# Altium schematic symbol library R1.SchLib: 224 symbols (part 1 of 2)
Pins are listed as number, name and electrical type; pins without a type are passive.

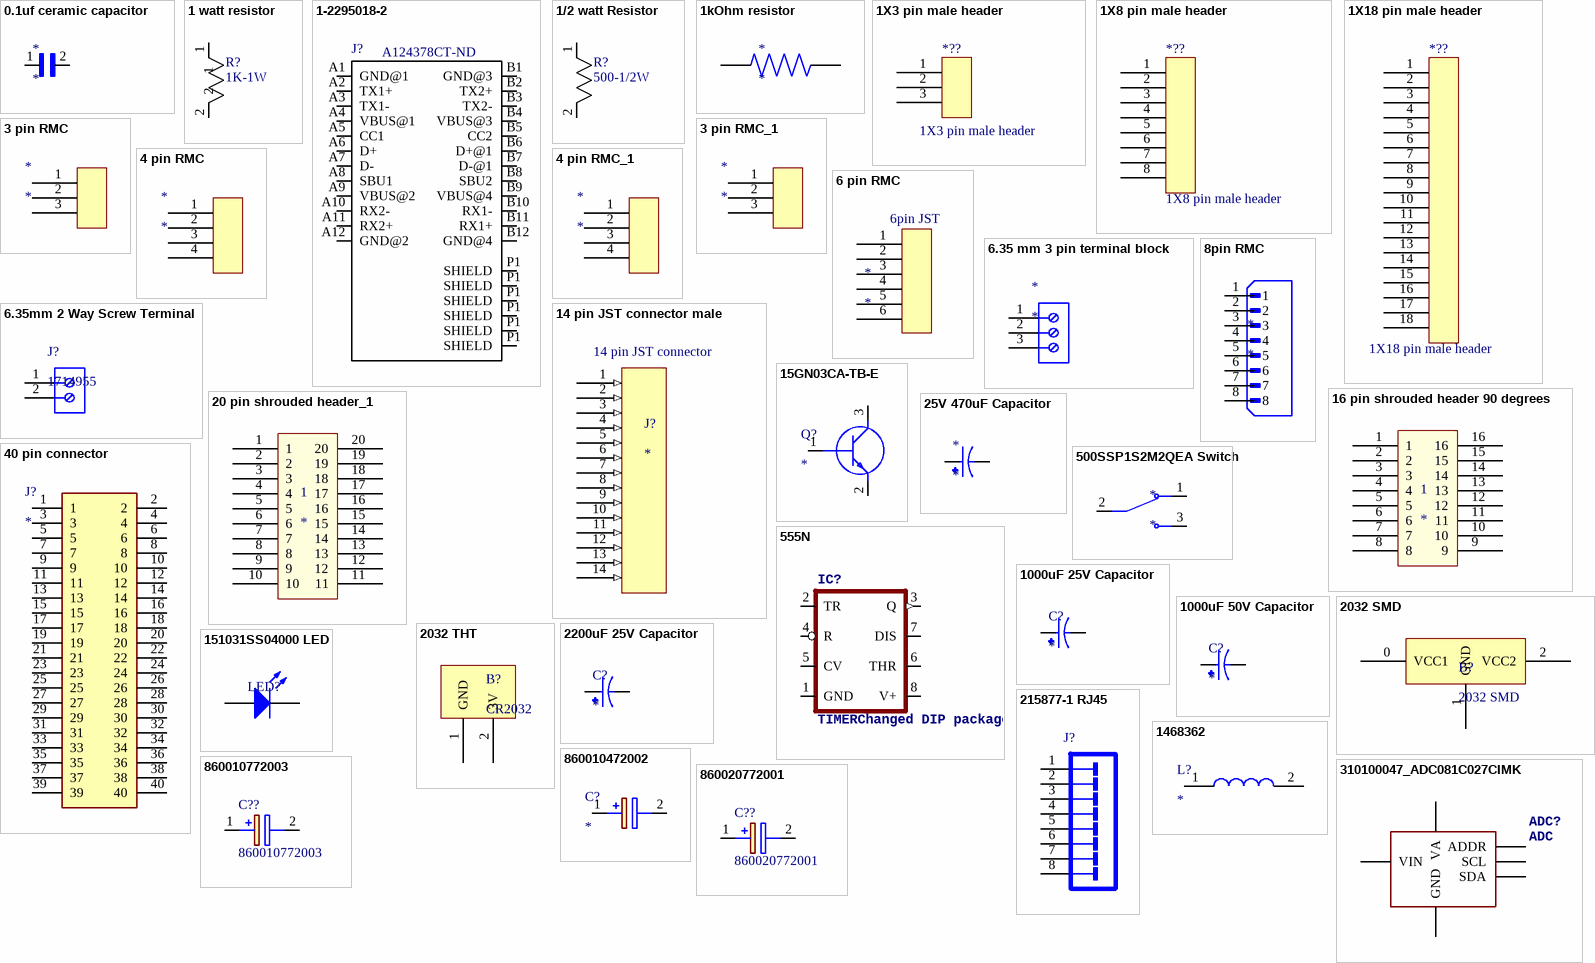
[diagram p0: symbols 0.1uf ceramic capacitor to 860020772001]

## 0.1uf ceramic capacitor
designator *
footprint 0.1uf ceramic capacitor
pins: 1, 2

## 1 watt resistor
designator R?, comment 1K-1W
footprint R_Axial_DIN0411_L9.9mm_D3.6mm_P15.24mm_Horizontal
pins: 1, 2

## 1-2295018-2
designator J?, comment Supplier Part Number 1: A124378CT-ND  (hidden comment: 1-2295018-2 USB C Connector)
Conn USB Type C RCP 12 POS Solder RA SMD 12 Terminal 1 Port T/R; MF: TE Connectivity; Availability: Unavailable; SnapEDA_Link: https://www.snapeda.com/parts/1-2295018-2/TE%20Connectivity%20AMP%20Connectors/view-part/?ref=snap; Price: None; TE_purchase_URL: https://www.te.com/usa-en/product-1-2295018-2.html?te_bu=Cor&te_type=disp&te_campaign=seda_glo_cor-seda-global-disp-prtnr-fy19-seda-model-bom-cta_sma-317_1&elqCampaignId=32493; Package: None; MP: 1-2295018-2; Value: *; Supplier 1: Digi-Key
footprint TE_1-2295018-2_1-2295018-2(Primary)
pins: A1 GND@1, A2 TX1+, A3 TX1-, A4 VBUS@1, A5 CC1, A6 D+, A7 D-, A8 SBU1, A9 VBUS@2, A10 RX2-, A11 RX2+, A12 GND@2, B1 GND@3, B2 TX2+, B3 TX2-, B4 VBUS@3, B5 CC2, B6 D+@1, B7 D-@1, B8 SBU2, B9 VBUS@4, B10 RX1-, B11 RX1+, B12 GND@4, P1 SHIELD, P1 SHIELD, P1 SHIELD, P1 SHIELD, P1 SHIELD, P1 SHIELD

## 1/2 watt Resistor
designator R?, comment 500-1/2W
footprint R_Axial_DIN0309_L9.0mm_D3.2mm_P12.70mm_Horizontal
pins: 1, 2

## 1kOhm resistor
designator *
footprint 1kOhm Resistor
pins: 1, 2

## 1X3 pin male header
designator *??
footprint PinHeader_1x03_P2.54mm_Vertical
pins: 1, 2, 3

## 1X8 pin male header
designator *??
footprint PinHeader_1x08_P2.54mm_Vertical
pins: 1, 2, 3, 4, 5, 6, 7, 8

## 1X18 pin male header
designator *??
footprint PinHeader_1x18_P2.54mm_Vertical
pins: 1, 2, 3, 4, 5, 6, 7, 8, 9, 10, 11, 12, 13, 14, 15, 16, 17, 18

## 3 pin RMC
designator *
footprint Header JST 1X03
pins: 1, 2, 3

## 3 pin RMC_1
designator *
footprint Header JST 1X03
pins: 1, 2, 3

## 4 pin RMC
designator *
footprint Header JST 1X04
pins: 1, 2, 3, 4

## 4 pin RMC_1
designator *
footprint Header JST 1X04
pins: 1, 2, 3, 4

## 6 pin RMC
designator *
footprint 6 pin RMC (JST header)
pins: 1, 2, 3, 4, 5, 6
text: 6pin JST

## 6.35 mm 3 pin terminal block
designator *
footprint 6.35mm 3 Way Screw Terminal
pins: 1, 2, 3

## 6.35mm 2 Way Screw Terminal
designator J?, comment 1714955
PC Terminal Block, Pitch 6.35 mm, 1 x 2 Position, Height 21.5 mm, Tail Lenght 5.1 mm, RoHS, Bulk; Manufacturer: Phoenix Contact; Package Description: PC Terminal Block, Pitch 6.35 mm, 1 x 2 Position, Height 21.5 mm, Tail Lenght 5.1 mm; Datasheet URL: http://media.digikey.com/pdf/Data%20Sheets/Phoenix%20Contact%20PDFs/1714955.pdf; Package Reference: 1714955; Manufacturer URL: http://www.phoenixcontact.com/; Datasheet Version: 02/2010; Mounting Technology: ThroughHole
footprint 6.35mm 2 Way Screw Terminal (Terminal Block, 2-Leads, Body 12.7x12.5mm, Pitch 6.35mm)
pins: 1, 2

## 8pin RMC
designator *
footprint 8pin RMC
pins: 1, 2, 3, 4, 5, 6, 7, 8

## 14 pin JST connector male
designator J?
footprint 14 pin JST connector (Pitch 2.54mm)
pins: 1 (in), 2 (in), 3 (in), 4 (in), 5 (in), 6 (in), 7 (in), 8 (in), 9 (in), 10 (in), 11 (in), 12 (in), 13 (in), 14 (in)
text: 14 pin JST connector

## 15GN03CA-TB-E
designator Q?
Transistor BJT NPN; Manufacturer_Name: onsemi; Manufacturer_Part_Number: 15GN03CA-TB-E; Datasheet Link: https://www.mouser.com/datasheet/2/308/ENA1106-D-117745.pdf; Height: 1.35mm; Mouser Part Number: 863-15GN03CA-TB-E; Mouser Price/Stock: https://www.mouser.co.uk/ProductDetail/ON-Semiconductor/15GN03CA-TB-E?qs=5C9Q4QJFsuPrDQA2X5K6OA%3D%3D
footprint SOT95P250X135-3N
pins: 1 B, 2 E, 3 C

## 16 pin shrouded header 90 degrees
designator 1
footprint 16 pin shrouded box 90 degrees
pins: 1, 2, 3, 4, 5, 6, 7, 8, 9, 10, 11, 12, 13, 14, 15, 16

## 20 pin shrouded header_1
designator 1
footprint 20 Pin Box Header .1"Sp Straight
pins: 1, 2, 3, 4, 5, 6, 7, 8, 9, 10, 11, 12, 13, 14, 15, 16, 17, 18, 19, 20

## 25V 470uF Capacitor
designator *
footprint 25V 470uF Capacitor
pins: N, P

## 40 pin connector
designator J?
Connector; Manufacturer_Name: Adafruit; Manufacturer_Part_Number: 4079; Datasheet Link: https://cdn-shop.adafruit.com/product-files/4079/P4079_datasheet_F201-SGP-D055-40.pdf; Height: 8.65mm; Mouser Part Number: 485-4079; Mouser Price/Stock: https://www.mouser.co.uk/ProductDetail/Adafruit/4079?qs=vLWxofP3U2w4WK9643znRA%3D%3D; Arrow Part Number: 4079; Arrow Price/Stock: https://www.arrow.com/en/products/4079/adafruit-industries?region=nac
footprint RHDR40W60P254X254_2X20_5130X500X865P
pins: 1, 2, 3, 4, 5, 6, 7, 8, 9, 10, 11, 12, 13, 14, 15, 16, 17, 18, 19, 20, 21, 22, 23, 24, 25, 26, 27, 28, 29, 30, 31, 32, 33, 34, 35, 36, 37, 38, 39, 40

## 500SSP1S2M2QEA Switch
designator *
pins: 1 NC, 2 COM, 3 NO

## 555N
designator IC?, comment TIMERChanged DIP package to have round (not oval) pin pads    http://www.ladyada.net/library/pcb/eaglelibrary.html
footprint DIL08-ROUND
pins: 1 GND (power), 2 TR, 3 Q (out), 4 R, 5 CV, 6 THR, 7 DIS, 8 V+ (power)

## 1000uF 25V Capacitor
designator C?
CAP ALUM 1000UF 20% 25V RADIAL; MP: EEUTA1E102LB; MF: Panasonic; Package: RADIAL-2 Panasonic; Availability: No availability data; Price: None; Check_prices: https://www.snapeda.com/parts/EEUTA1E102LB/Panasonic/view-part/5789306/?ref=eda; SnapEDA_Link: https://www.snapeda.com/parts/EEUTA1E102LB/Panasonic/view-part/5789306/?ref=snap; Value: *
footprint 1000uF 25V Capacitor
pins: N, P

## 1000uF 50V Capacitor
designator C?
CAP ALUM 1000UF 20% 50V RADIAL; MF: Panasonic; MP: EEU-HD1H102B; Availability: In Stock; Check_prices: https://www.snapeda.com/parts/EEU-HD1H102B/Panasonic/view-part/2335470/?ref=eda; Package: RADIAL-2 Panasonic; Price: None; SnapEDA_Link: https://www.snapeda.com/parts/EEU-HD1H102B/Panasonic/view-part/2335470/?ref=snap; Value: *
footprint 1000uF 50V Capacitor
pins: N, P

## 2032 SMD
designator B?
footprint 2032 SMD
pins: 0 VCC1, 1 GND, 2 VCC2

## 2032 THT
designator B?, comment CR2032
footprint CR2032THT
pins: 1 GND, 2 3V

## 2200uF 25V Capacitor
designator C?
Aluminum Electrolytic Capacitors, TA-A Series, 2200uF +/- 20%, 25V, Radial lead type(16x31.5mm); MF: Panasonic; MP: EEUTA1E222; Package: RADIAL-2 Panasonic; Purchase-URL: https://pricing.snapeda.com/search/part/EEUTA1E222/?ref=eda; Value: *; Availability: In Stock; SnapEDA_Link: https://www.snapeda.com/parts/EEUTA1E222/Panasonic/view-part/5784153/?ref=snap; Price: None; Check_prices: https://www.snapeda.com/parts/EEUTA1E222/Panasonic/view-part/5784153/?ref=eda
footprint CAP 2200uF 25V
pins: N, P

## 151031SS04000 LED
designator LED?
THT LED round mono-color color lens, WL-TMRW, Super Red; PartNumber: 151031SS04000; PackageReference: Type 3mm; Emitting color: Super Red; ComponentLink1Description: Manufacturer URL; ComponentLink1URL: http://www.we-online.com; ComponentLink2Description: Datasheet; ComponentLink2URL: http://katalog.we-online.de/pbs/datasheet/7448042001.pdfhttp://katalog.we-online.de/pbs/datasheet/7448042001.pdfhttp://katalog.we-online.de/pbs/datasheet/7448042001.pdfhttp://katalog.we-online.de/pbs/datasheet/151031SS04000.pdf
footprint LED Type 3mm (THT, LED-3mm, 2pin- Body 4.15mm(max))
pins: 1 K, 2 A

## 215877-1 RJ45
designator J?
Female Header, Pitch 2.54 mm, 2 x 4 Position, Height 11.5 mm, Tail Length 3 mm, -40 to 105 degC, RoHS, Tape and Reel; Dynamic Catalog: Modular Jacks; Other Names: A105009CT; Number of Ports: 1; Connector Type: Jack; LED Color: Does Not Contain LED; Ratings: Cat3; Number of Positions/Contacts: 8p8c (RJ45, Ethernet); 3D Model: 215877-1.pdf; Tab Direction: Down; Shielding: Unshielded; DatasheetVersion: Rev. AE; PackageReference: THD; Supplier 1: Digi-Key; Supplier Part Number 1: A105009TR-ND; Supplier 2: Digi-Key; Supplier Part Number 2: A105009CT-ND; Features: Board Lock; Packaging: Cut Tape (CT); Termination: Solder; Family: Modular Connectors - Jacks; Contact Finish: Gold; Housing Material: Polybutylene Terephthalate (PBT); RoHS Information: 215877-1 Statement of Compliance; Mounting Type: Through Hole; Contact Material: Phosphor Bronze; Orientation: 90° Angle (Right); Standard Package: 1; Number of Rows: 1; Category: Connectors, Interconnects; ComponentLink1Description: Manufacturer URL; ComponentLink1URL: http://www.te.com; ComponentLink2Description: Datasheet; ComponentLink2URL: https://datasheet.ciiva.com/16310/215877-1-16310656.pdf
footprint TECO-215877-1_V_RJ45 (TH, 8-Leads, Body 18.1x15.2mm RJ45)
pins: 1, 2, 3, 4, 5, 6, 7, 8

## 1468362
designator L?
Inductor; Manufacturer_Name: Murata Electronics; Manufacturer_Part_Number: 1468362; Datasheet Link: https://www.mouser.com/datasheet/2/281/kmp_1400-38440.pdf; Height: 15mm; Mouser Part Number: 580-1468362; Mouser Price/Stock: https://www.mouser.com/Search/Refine.aspx?Keyword=580-1468362
footprint 1468362
pins: 1, 2

## 310100047_ADC081C027CIMK
designator ADC?, comment ADC
footprint SOT236
pins: 1 VA (power), 2 GND (power), 3 VIN, 4 ADDR, 5 SCL, 6 SDA

## 860010472002
designator C?
Capacitor Polarised; Manufacturer_Name: Wurth Elektronik; Manufacturer_Part_Number: 860010472002; Datasheet Link: https://www.we-online.com/catalog/datasheet/860010472002.pdf; Height: 12.5mm; Mouser Part Number: 710-860010472002; Mouser Price/Stock: https://www.mouser.co.uk/ProductDetail/Wurth-Elektronik/860010472002?qs=0KOYDY2FL2%2FyXlauDHcLjg%3D%3D
footprint CAPPRD200W52D500H1250
pins: 1 +, 2 -

## 860010772003
designator C??
Capacitor Polarised; Manufacturer_Name: Wurth Elektronik; Datasheet Link: https://componentsearchengine.com/Datasheets/2/860010772003.pdf; Height: 12.5mm; Manufacturer_Part_Number: 860010772003; Mouser Part Number: 710-860010772003; Mouser Price/Stock: https://www.mouser.co.uk/ProductDetail/Wurth-Elektronik/860010772003?qs=0KOYDY2FL29PTpt3pWRF6g%3D%3D
footprint CAPPRD200W52D500H1250
pins: 1 +, 2 -

## 860020772001
designator C??
Capacitor Polarised; Manufacturer_Name: Wurth Elektronik; Datasheet Link: http://katalog.we-online.de/pbs/datasheet/860020772001.pdf; Height: 12mm; Manufacturer_Part_Number: 860020772001; Mouser Part Number: 710-860020772001; Mouser Price/Stock: https://www.mouser.co.uk/ProductDetail/Wurth-Elektronik/860020772001?qs=0KOYDY2FL2%2F1%2FcLhynxZVQ%3D%3D
footprint CAPPRD200W52D500H1200
pins: 1 +, 2 -

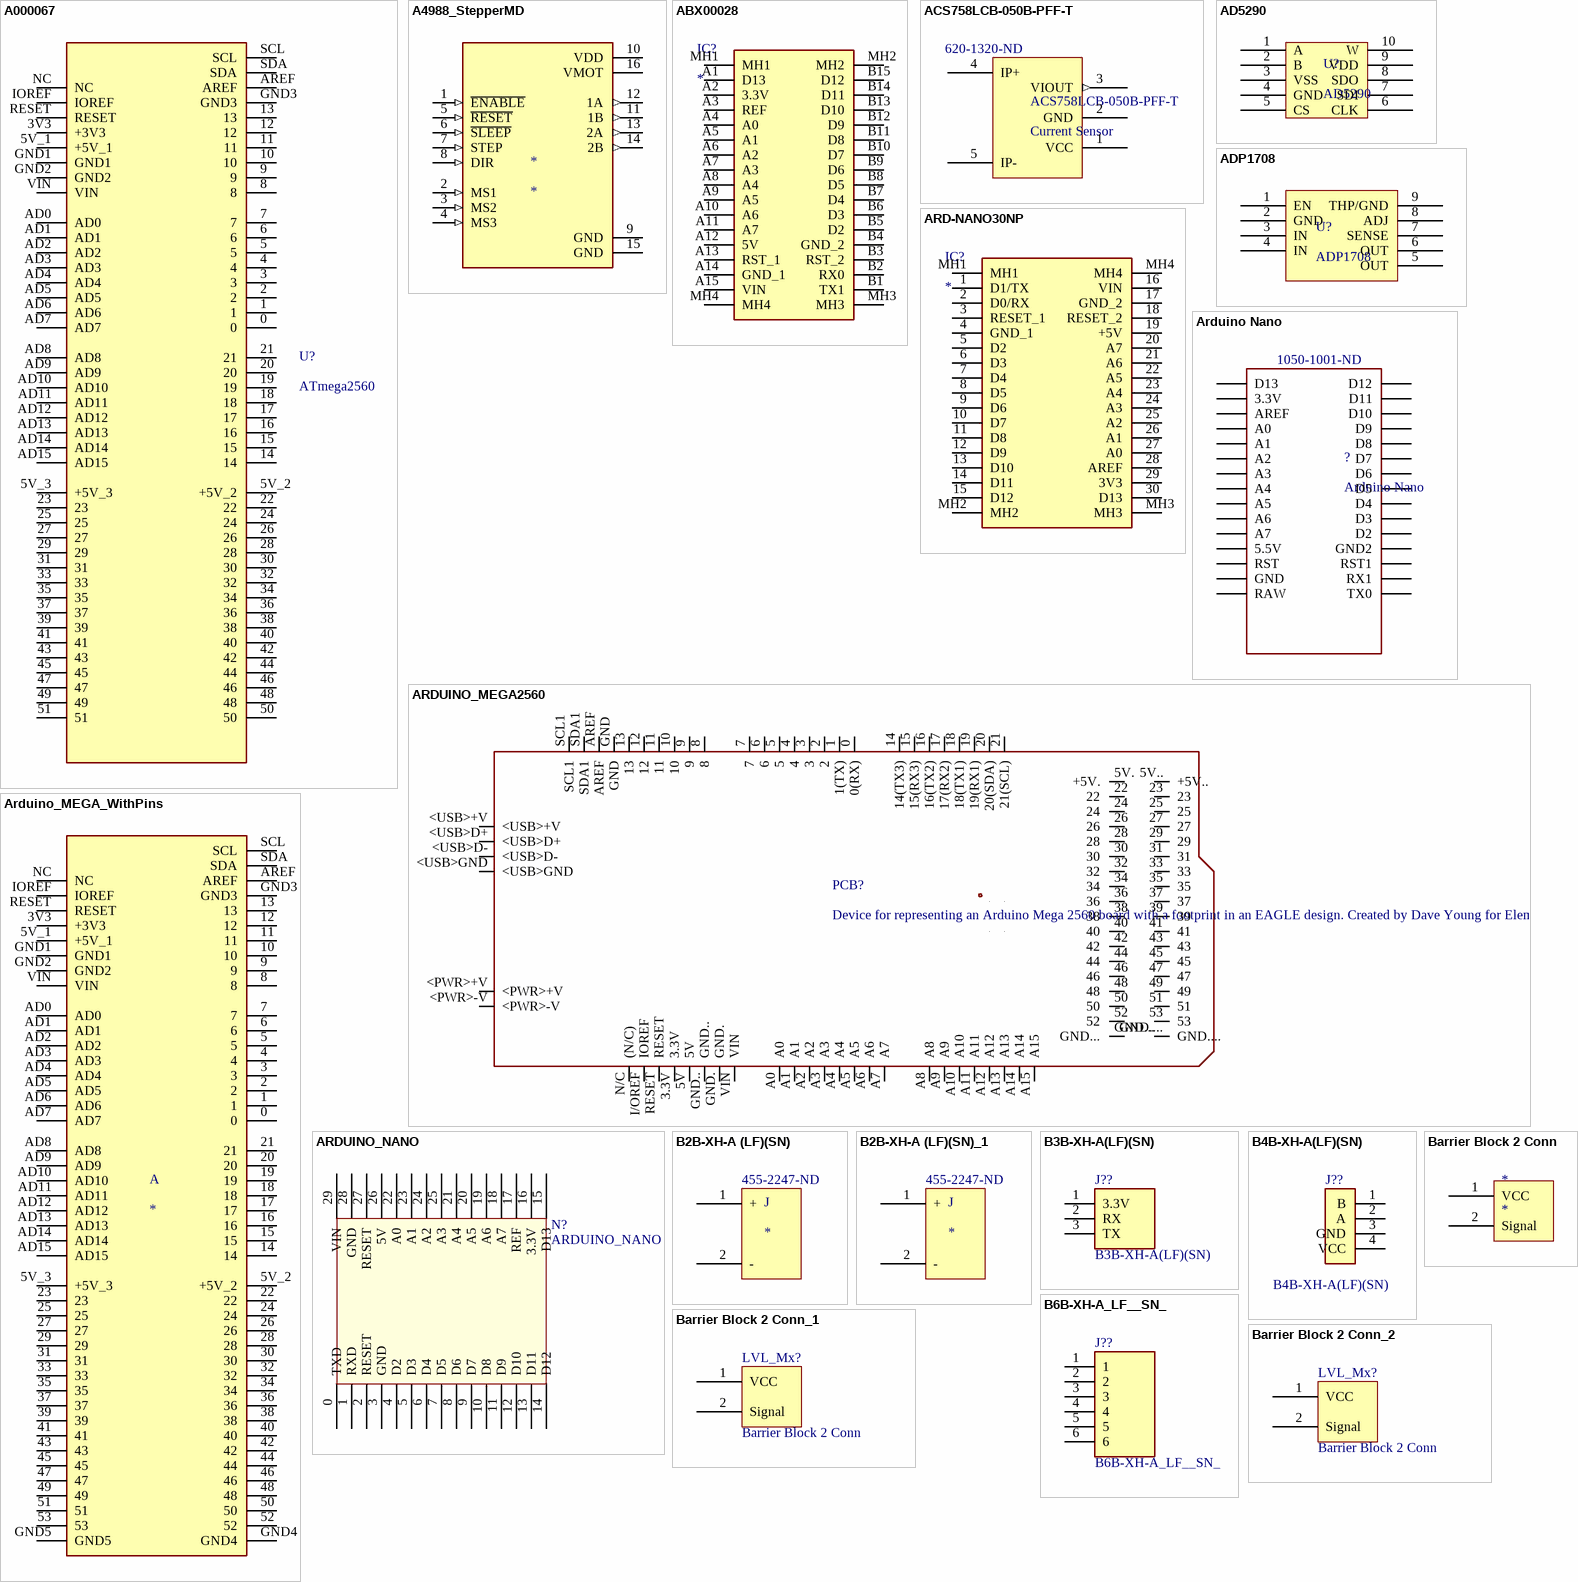
[diagram p1: symbols A000067 to Barrier Block 2 Conn_2]

## A000067
designator U?, comment ATmega2560
ATmega2560 Microcontroller Mega Development Board 16MHz CPU 8KB RAM 4KB/256KB EEPROM/Flash; Manufacturer: Arduino; Manufacturer Part Number: A000067; Number of Bits: 8; Core Architecture: AVR; Evaluation Kit: Yes; Interface: USB,UART; Density: 256KB; Max Input Voltage: 12V; Min Input Voltage: 7V; Supplier 1: RSComponents; RoHS: No; Category: Embedded Processors and Controllers; Stock 1: 7329; Pricing 1: 1=39.87400, 10=36.28200, 50=34.68700 (USD); Weight: 0.11lb; Packaging: Bulk; Package Quantity: 1; Series: AVR® ATmega; Length: 7inch; Width: 4inch; Height: 0.25inch; REACH SVHC: Unknown; RoHS Compliant: Yes; ComponentLink1URL: https://datasheet.ciiva.com/17118/0900766b80e8ba22-17118566.pdf?src-supplier=Allied+Electronics; ComponentLink1Description: https://datasheet.ciiva.com/17118/0900766b80e8ba22-17118566.pdf?src-supplier=Allied+Electronics; ComponentLink2URL: https://datasheet.ciiva.com/14100/mega2560-eng-tds-14100429.pdf?src-supplier=Distrelec; ComponentLink2Description: https://datasheet.ciiva.com/14100/mega2560-eng-tds-14100429.pdf?src-supplier=Distrelec; ComponentLink3URL: https://datasheet.ciiva.com/19455/2152366-19455442.pdf?src-supplier=Jameco; ComponentLink3Description: https://datasheet.ciiva.com/19455/2152366-19455442.pdf?src-supplier=Jameco; ComponentLink4URL: https://datasheet.ciiva.com/6810/1674878-6810805.pdf?src-supplier=Newark; ComponentLink4Description: https://datasheet.ciiva.com/6810/1674878-6810805.pdf?src-supplier=Newark; ComponentLink5URL: https://datasheet.ciiva.com/20168/73-4450-20168545.pdf?src-supplier=Rapid+Electronics; ComponentLink5Description: https://datasheet.ciiva.com/20168/73-4450-20168545.pdf?src-supplier=Rapid+Electronics; ComponentLink6URL: https://datasheet.ciiva.com/29142/191790-sp-01-en-arduino-mega-2560-board-29142322.pdf?src-supplier=Conrad; ComponentLink6Description: https://datasheet.ciiva.com/29142/191790-sp-01-en-arduino-mega-2560-board-29142322.pdf?src-supplier=Conrad; ComponentLink7URL: https://datasheet.ciiva.com/2398/atmel-2549-8-bit-avr-microcontroller-atmega640-1280-1281-2560-2561-datasheet-2398238.pdf?src-supplier=Digi-Key; ComponentLink7Description: https://datasheet.ciiva.com/2398/atmel-2549-8-bit-avr-microcontroller-atmega640-1280-1281-2560-2561-datasheet-2398238.pdf?src-supplier=Digi-Key; Supplier Part Number 1: 7154084
footprint arduino mega
pins: 0, 1, 2, 3, 3V3 +3V3, 4, 5, 5V_1 +5V_1, 5V_2 +5V_2, 5V_3 +5V_3, 6, 7, 8, 9, 10, 11, 12, 13, 14, 15, 16, 17, 18, 19, 20, 21, 22, 23, 24, 25, 26, 27, 28, 29, 30, 31, 32, 33, 34, 35, 36, 37, 38, 39, 40, 41, 42, 43, 44, 45, 46, 47, 48, 49, 50, 51, AD0, AD1, AD2, AD3, AD4, AD5, AD6, AD7, AD8, AD9, AD10, AD11, AD12, AD13, AD14, AD15, AREF, GND1, GND2, GND3, IOREF, NC, RESET, SCL, SDA, VIN

## A4988_StepperMD
designator *
footprint A4988_StepperMD
pins: 1 ~{ENABLE} (in), 2 MS1 (in), 3 MS2 (in), 4 MS3 (in), 5 ~{RESET} (in), 6 ~{SLEEP} (in), 7 STEP (in), 8 DIR (in), 9 GND (power), 10 VDD (power), 11 1B (out), 12 1A (out), 13 2A (out), 14 2B (out), 15 GND (power), 16 VMOT (power)

## ABX00028
designator IC?
Integrated Circuit; Manufacturer_Name: Arduino; Manufacturer_Part_Number: ABX00028; Datasheet Link: https://store.arduino.cc/arduino-nano-every; Height: 10mm; Mouser Part Number: 782-ABX00028; Mouser Price/Stock: https://www.mouser.co.uk/ProductDetail/Arduino/ABX00028?qs=PzGy0jfpSMtit6rnFl8mVg%3D%3D; Arrow Part Number: ABX00028; Arrow Price/Stock: https://www.arrow.com/en/products/abx00028/arduino-corporation?region=nac
footprint ABX00028
pins: A1 D13, A2 3.3V, A3 REF, A4 A0, A5 A1, A6 A2, A7 A3, A8 A4, A9 A5, A10 A6, A11 A7, A12 5V, A13 RST_1, A14 GND_1, A15 VIN, B1 TX1, B2 RX0, B3 RST_2, B4 GND_2, B5 D2, B6 D3, B7 D4, B8 D5, B9 D6, B10 D7, B11 D8, B12 D9, B13 D10, B14 D11, B15 D12, MH1, MH2, MH3, MH4

## ACS758LCB-050B-PFF-T
designator ACS758LCB-050B-PFF-T, comment Current Sensor  Supplier Part Number 1: 620-1320-ND
Thermally Enhanced, Fully Integrated, Hall Effect-Based  Linear Current Sensor IC with 100 µΩ Current Conductor; Manufacturer: Allegro MicroSystems, LLC; Manufacturer Part Number: ACS758LCB-050B-PFF-T; For Measuring: AC/DC; Sensor Type: Hall Effect, Open Loop; Current - Sensing: 50A; Number of Channels: 1; Output: Ratiometric, Voltage; Sensitivity: 40mV/A; Frequency: DC ~ 120kHz; Linearity: ±1%; Accuracy: ±2%; Voltage - Supply: 3 V ~ 5.5 V; Response Time: 4µs; Current - Supply (Max): 13.5mA; Polarization: Bidirectional; Supplier 1: Digi-Key; RoHS: RoHS Compliant; Category: Sensors, Transducers; Stock 1: 7507; Pricing 1: 1=7.98, 5=7, 10=6.3, 25=5.6, 50=5.18, 100=4.48, 500=4.2, 1000=3.92, 5000=3.724 (USD); Packaging: Tube; Operating Temperature: -40°C ~ 150°C; Mounting Type: Through Hole; Package / Case: 5-CB Formed Leads, PFF; ComponentLink1URL: http://www.allegromicro.com/en/Products/Part_Numbers/0758/0758.pdf; ComponentLink1Description: http://www.allegromicro.com/en/Products/Part_Numbers/0758/0758.pdf
footprint ACS758LCB-050B-PFF-T
pins: 1 VCC (power), 2 GND (power), 3 VIOUT (out), 4 IP+ (power), 5 IP- (power)

## AD5290
designator U?
Digital Potentiometer
footprint MSOP10 (MSOP 10 pitch 0.5mm)
pins: 1 A, 2 B, 3 VSS, 4 GND, 5 CS, 6 CLK, 7 SDI, 8 SDO, 9 VDD, 10 W

## ADP1708
designator U?
1 A, Low Dropout,  CMOS Linear Regulator
footprint SOIC 8 - THPAD (8-Pin Small Outline Integrated Circuit 1.27 mm Pitch, IPC Medium Density)
pins: 1 EN, 2 GND, 3 IN, 4 IN, 5 OUT, 6 OUT, 7 SENSE, 8 ADJ, 9 THP/GND

## ARD-NANO30NP
designator IC?
Integrated Circuit; Manufacturer_Name: Gravitech; Manufacturer_Part_Number: ARD-NANO30NP; Datasheet Link: http://www.mouser.com/datasheet/2/595/Arduino_Nano3_0-220057.pdf; Height: 5mm; Mouser Part Number: 992-ARD-NANO30NP; Mouser Price/Stock: https://www.mouser.co.uk/ProductDetail/Gravitech/ARD-NANO30NP?qs=Vxac6xGyzPlh7in3DWNTbQ%3D%3D
footprint ARDNANO30NP
pins: 1 D1/TX, 2 D0/RX, 3 RESET_1, 4 GND_1, 5 D2, 6 D3, 7 D4, 8 D5, 9 D6, 10 D7, 11 D8, 12 D9, 13 D10, 14 D11, 15 D12, 16 VIN, 17 GND_2, 18 RESET_2, 19 +5V, 20 A7, 21 A6, 22 A5, 23 A4, 24 A3, 25 A2, 26 A1, 27 A0, 28 AREF, 29 3V3, 30 D13, MH1, MH2, MH3, MH4

## Arduino Nano
designator ?  Supplier Part Number 1: 1050-1001-ND
Manufacturer Part Number: A000005; Board Type: Evaluation Platform; Core Processor: AVR; For Use With/Related Products: ATmega328; Contents: Board(s); Supplier 1: Digi-Key; Manufacturer: Arduino; RoHS: RoHS Compliant; Category: Programmers, Development Systems; Stock 1: 0; Pricing 1: 1=0 (USD); Type: MCU 8-Bit; Operating System: -; Platform: Arduino Nano; Mounting Type: Fixed; ComponentLink1URL: http://media.digikey.com/pdf/Data%20Sheets/Arduino%20PDFs/A000005.pdf; ComponentLink1Description: http://media.digikey.com/pdf/Data%20Sheets/Arduino%20PDFs/A000005.pdf
footprint Arduino Nano (Arduino Nano, ATMEGA328)
pins: 3.3V, 5V 5.5V, A0, A1, A2, A3, A4, A5, A6, A7, AREF, D2, D3, D4, D5, D6, D7, D8, D9, D10, D11, D12, D13, GND, GND1 GND2, RAW, RST, RST1, RX1, TX0

## ARDUINO_MEGA2560
designator PCB?, comment Device for representing an Arduino Mega 2560 board with a footprint in an EAGLE design. Created by Dave Young for Element14. More EAGLE documentation at: http://www.element14.com/community/community/knode/cadsoft_eagle
footprint ARDUINO_MEGA2560
pins: 0 0(RX), 1 1(TX), 2, 3, 3.3V, 4, 5, 5V, 5V. +5V., 5V.. +5V.., 6, 7, 8, 9, 10, 11, 12, 13, 14 14(TX3), 15 15(RX3), 16 16(TX2), 17 17(RX2), 18 18(TX1), 19 19(RX1), 20 20(SDA), 21 21(SCL), 22, 23, 24, 25, 26, 27, 28, 29, 30, 31, 32, 33, 34, 35, 36, 37, 38, 39, 40, 41, 42, 43, 44, 45, 46, 47, 48, 49, 50, 51, 52, 53, +5V_, <PWR>+V, <PWR>-V, <USB>+V, <USB>D+, <USB>D-, <USB>GND, A0, A1, A2, A3, A4, A5, A6, A7, A8, A9, A10, A11, A12, A13, A14, A15, AREF, GND, GND., GND.., GND..., GND...., GND__, I/OREF IOREF, MISO, MOSI, N/C (N/C), RESET, RESET., SCK, SCL1, SDA1, VIN

## Arduino_MEGA_WithPins
designator A
ATmega2560 Arduino Mega2560 AVRÂ® ATmega AVR MCU 8-Bit Embedded Evaluation Board; MP: A000067; Availability: Unavailable; Package: None; SnapEDA_Link: https://www.snapeda.com/parts/A000067/Arduino/view-part/557398/?ref=snap; Price: None; Value: *; MF: Arduino
footprint ARDUINO_MEGA_WithPins
pins: 0, 1, 2, 3, 3V3 +3V3, 4, 5, 5V_1 +5V_1, 5V_2 +5V_2, 5V_3 +5V_3, 6, 7, 8, 9, 10, 11, 12, 13, 14, 15, 16, 17, 18, 19, 20, 21, 22, 23, 24, 25, 26, 27, 28, 29, 30, 31, 32, 33, 34, 35, 36, 37, 38, 39, 40, 41, 42, 43, 44, 45, 46, 47, 48, 49, 50, 51, 52, 53, AD0, AD1, AD2, AD3, AD4, AD5, AD6, AD7, AD8, AD9, AD10, AD11, AD12, AD13, AD14, AD15, AREF, GND1, GND2, GND3, GND4, GND5, IOREF, NC, RESET, SCL, SDA, VIN

## ARDUINO_NANO
designator N?
ATSAMD21G18A Arduino Nano 33 IoT SAM D ARMÂ® CortexÂ®-M0+ MCU 32-Bit Embedded Evaluation Board; MP: ARDUINO NANO; Package: None; Price: None; Availability: Unavailable; Value: *; MF: Arduino; SnapEDA_Link: https://www.snapeda.com/parts/ARDUINO%20NANO/Arduino/view-part/1128261/?ref=snap
footprint SHIELD_ARDUINO_NANO
pins: 0 TXD, 1 RXD, 2 RESET, 3 GND, 4 D2, 5 D3, 6 D4, 7 D5, 8 D6, 9 D7, 10 D8, 11 D9, 12 D10, 13 D11, 14 D12, 15 D13, 16 3.3V, 17 REF, 18 A7, 19 A6, 20 A5, 21 A4, 22 A0, 23 A1, 24 A2, 25 A3, 26 5V, 27 RESET, 28 GND, 29 VIN

## B2B-XH-A (LF)(SN)
designator J  Supplier Part Number 1: 455-2247-ND
Supplier 1: Digi-Key
footprint JST 2 PIN (BATTERY IN)
pins: 1 +, 2 -

## B2B-XH-A (LF)(SN)_1
designator J  Supplier Part Number 1: 455-2247-ND
Supplier 1: Digi-Key
footprint JST 2 PIN (BATTERY IN)
pins: 1 +, 2 -

## B3B-XH-A(LF)(SN)
designator J??
Connector Header Through Hole 3 position 0.098 (2.50mm); MF: JST Sales; Check_prices: https://www.snapeda.com/parts/B3B-XH-A(LF)(SN)/JST%20Sales%20America%20Inc./view-part/231271/?ref=eda; Value: *; Package: None; Price: None; Availability: In Stock; MP: B3B-XH-A(LF)(SN); SnapEDA_Link: https://www.snapeda.com/parts/B3B-XH-A(LF)(SN)/JST%20Sales%20America%20Inc./view-part/231271/?ref=snap
footprint JST_B3B-XH-A(LF)(SN)
pins: 1 3.3V, 2 RX, 3 TX

## B4B-XH-A(LF)(SN)
designator J??
Connector Header Through Hole 4 position 0.098 (2.50mm); MF: JST Sales; Check_prices: https://www.snapeda.com/parts/B4B-XH-A(LF)(SN)/JST%20Sales%20America%20Inc./view-part/447494/?ref=eda; Purchase-URL: https://pricing.snapeda.com/search/part/B4B-XH-A(LF)(SN)/?ref=eda; SnapEDA_Link: https://www.snapeda.com/parts/B4B-XH-A(LF)(SN)/JST%20Sales%20America%20Inc./view-part/447494/?ref=snap; Price: None; Value: *; MP: B4B-XH-A(LF)(SN); Package: None; Availability: Warning
footprint JST_B4B-XH-A(LF)(SN)
pins: 1 B, 2 A, 3 GND, 4 VCC

## B6B-XH-A_LF__SN_
designator J??
Connector; Manufacturer_Name: JST (JAPAN SOLDERLESS TERMINALS); Manufacturer_Part_Number: B6B-XH-A(LF)(SN); Datasheet Link: https://datasheet.lcsc.com/szlcsc/JST-Sales-America-B6B-XH-A-LF-SN_C144397.pdf; Height: 7mm; Arrow Part Number: B6B-XH-A(LF)(SN); Arrow Price/Stock: https://www.arrow.com/en/products/b6b-xh-a-lf-sn/jst-manufacturing
footprint SHDR6W64P0X250_1X6_1740X575X700P
pins: 1, 2, 3, 4, 5, 6

## Barrier Block 2 Conn
designator *
footprint 2 Barrier Block - duplicate (A98472-ND)
pins: 1 VCC, 2 Signal

## Barrier Block 2 Conn_1
designator LVL_Mx?, comment Barrier Block 2 Conn
footprint 2 Barrier Block - duplicate (A98472-ND)
footprint 2 Barrier Block 5mm
pins: 1 VCC, 2 Signal

## Barrier Block 2 Conn_2
designator LVL_Mx?, comment Barrier Block 2 Conn
footprint 2 Barrier Block - duplicate (A98472-ND)
footprint 2 Barrier Block 5mm
pins: 1 VCC, 2 Signal

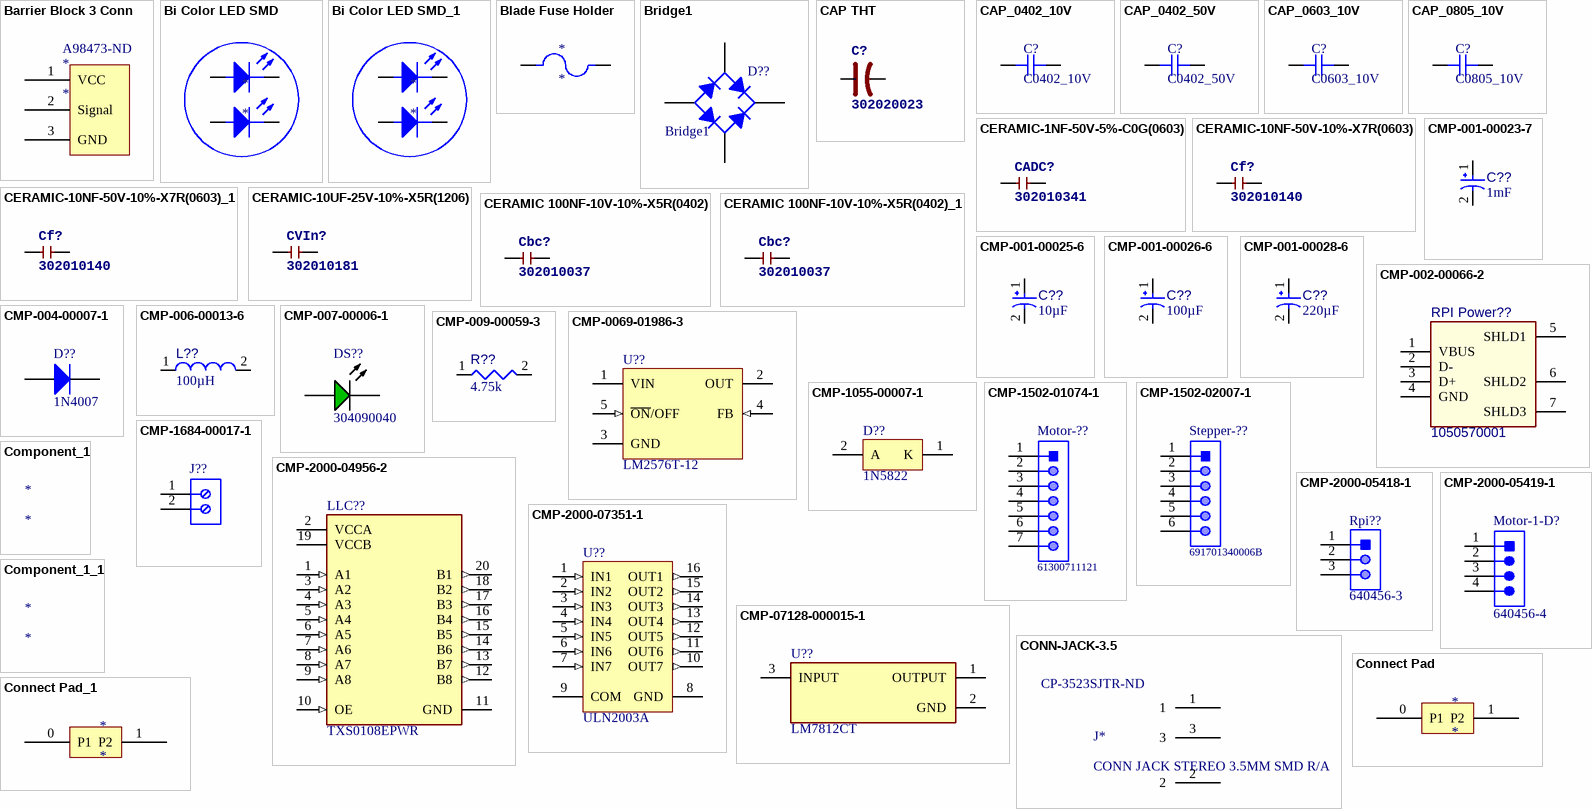
[diagram p2: symbols Barrier Block 3 Conn to Connect Pad_1]

## Barrier Block 3 Conn
designator *  Supplier Part Number 1: A98473-ND
Supplier 1: Digi-Key
footprint 3 Barrier Block (A98473-ND)
pins: 1 VCC, 2 Signal, 3 GND

## Bi Color LED SMD
designator *
footprint BI COLOR LED
pins: 1 A, 2 K, 3 A, 4 K

## Bi Color LED SMD_1
designator *
footprint BI COLOR LED
pins: 1 A, 2 K, 3 A, 4 K

## Blade Fuse Holder
designator *
footprint Blade fuse holder
pins: 1_1 1, 1_2 1, 2_1 2, 2_2 2

## Bridge1
designator D??
Full Wave Diode Bridge; Published: 8-Jun-2000; LatestRevisionDate: 29-May-2009; LatestRevisionNote: Sch pins A & K swapped.; DatasheetVersion: E2732B; PackageReference: D-38; Publisher: Altium Limited; PackageDescription: Bridge Rectifier; 4 Terminals; Body 9.4 x 9.4 mm (typ); Pitch 5.08 mm
footprint D-38 (Bridge Rectifier; 4 Terminals; Body 9.4 x 9.4 mm (typ); Pitch 5.08 mm)
simulation model BRIDGE (Spice Subcircuit)
pins: 1 K, 2 C, 3 A, 4 C

## CAP THT
designator C?, comment 302020023
footprint CAP TH
pins: 1 +, 2 -

## CAP_0402_10V
designator C?, comment C0402_10V
Capacitor SMD 0402 10V
footprint CAP_0402
pins: 1, 2

## CAP_0402_50V
designator C?, comment C0402_50V
Capacitor SMD 0402 50V
footprint CAP_0402
pins: 1, 2

## CAP_0603_10V
designator C?, comment C0603_10V
Capacitor SMD 0603 10V
footprint CAP_0603
pins: 1, 2

## CAP_0805_10V
designator C?, comment C0805_10V
Capacitor SMD 0805 10V
footprint CAP_0805
pins: 1, 2

## CERAMIC-1NF-50V-5%-C0G(0603)
designator CADC?, comment 302010341
MPN: GRM1885C1H102JA01D
footprint C0603
pins: 1, 2

## CERAMIC-10NF-50V-10%-X7R(0603)
designator Cf?, comment 302010140
MPN: CC0603KRX7R9BB103
footprint C0603
pins: 1, 2

## CERAMIC-10NF-50V-10%-X7R(0603)_1
designator Cf?, comment 302010140
MPN: CC0603KRX7R9BB103
footprint C0603
pins: 1, 2

## CERAMIC-10UF-25V-10%-X5R(1206)
designator CVIn?, comment 302010181
MPN: CC1206KKX5R8BB106
footprint C1206
pins: 1, 2

## CERAMIC 100NF-10V-10%-X5R(0402)
designator Cbc?, comment 302010037
MPN: CC0402KRX5R6BB104
footprint C0402
pins: 1, 2

## CERAMIC 100NF-10V-10%-X5R(0402)_1
designator Cbc?, comment 302010037
MPN: CC0402KRX5R6BB104
footprint C0402
pins: 1, 2

## CMP-001-00023-7
designator C??, comment value 1mF  (hidden comment: ECA1EM102)
Aluminum Electrolytic Capacitor, 1000 uF, +/- 20%, 25 V, -40 to 85 degC, 2-Pin THD, RoHS, Bulk; Manufacturer: Panasonic; Manufacturer Part Number: ECA-1EM102; Voltage Rating: 25V; Ripple Current: 850mA; Mounting Technology: TH; Datasheet URL: https://industrial.panasonic.com/cdbs/www-data/pdf/RDF0000/ABA0000C1218.pdf; Package Reference: CAPPR65-500-2000X1000X2200; RoHS Compliant: True; Package Description: 2-Pin Radial Lead, Dia 10 mm, Height 22 mm; Case/Package: Radial; Lead Pitch: 5mm; Min Operating Temperature: -40°C; Datasheet Version: Rev. 05, 10/2016; Manufacturer URL: http://www.panasonic.com/; Max Operating Temperature: 85°C; Tolerance: 20%; Capacitor Type: Electrolytic; Diameter: 10mm; Packaging: Bulk; Package Quantity: 200; Component Type: Capacitors
footprint CAPPR65-500-2000X1000X2200 (THD, 2-Leads, Dia 10mm, Pin Spacing 5mm)
pins: 1, 2

## CMP-001-00025-6
designator C??, comment value 10µF  (hidden comment: ECA1HM100)
Aluminum Electrolytic Capacitor, 10 uF, +/- 20%, 50 V, -40 to 85 degC, 2-Pin THD, RoHS, Bulk; Manufacturer: Panasonic; Manufacturer Part Number: ECA-1HM100; Voltage Rating: 50V; Ripple Current (AC): 65mA; Capacitor Type: Electrolytic; Case/Package: Radial; Datasheet URL: https://industrial.panasonic.com/cdbs/www-data/pdf/RDF0000/ABA0000C1218.pdf; Package Description: 2-Pin Radial Lead, Dia 5 mm, Height 12 mm; Mounting Technology: TH; Tolerance: 20%; Packaging: Bulk; Datasheet Version: Rev. 05, 10/2016; Min Operating Temperature: -40°C; Lead Pitch: 2mm; Pins: 2; Diameter: 5mm; Ripple Current: 65mA; Package Reference: CAPPR55-200-1100X500X1200; Manufacturer URL: http://www.panasonic.com/; RoHS Compliant: True; Package Quantity: 200; Max Operating Temperature: 85°C; Component Type: Capacitors
footprint CAPPR55-200-1100X500X1200 (THD, 2-Leads, Dia 5mm, Pin Spacing 2mm)
pins: 1, 2

## CMP-001-00026-6
designator C??, comment value 100µF  (hidden comment: ECA1HM101)
Aluminum Electrolytic Capacitor, 100 uF, +/- 20%, 50 V, -40 to 85 degC, 2-Pin THD, RoHS, Bulk; Manufacturer: Panasonic; Manufacturer Part Number: ECA-1HM101; Ripple Current (AC): 250mA; Voltage Rating: 50V; Package Description: 2-Pin Radial Lead, Dia 8 mm, Height 12.5 mm; Datasheet URL: https://industrial.panasonic.com/cdbs/www-data/pdf/RDF0000/ABA0000C1218.pdf; Lead Pitch: 3.5mm; Datasheet Version: Rev. 05, 10/2016; RoHS Compliant: True; Ripple Current: 250mA; Max Operating Temperature: 85°C; Packaging: Bulk; Manufacturer URL: http://www.panasonic.com/; Min Operating Temperature: -40°C; Package Reference: CAPPR65-350-1150X800X1250; Package Quantity: 200; Diameter: 8mm; Capacitor Type: Electrolytic; Tolerance: 20%; Pins: 2; Case/Package: Radial; Mounting Technology: TH; Component Type: Capacitors
footprint CAPPR65-350-1150X800X1250 (THD, 2-Leads, Dia 8mm, Pin Spacing 3.5mm)
pins: 1, 2

## CMP-001-00028-6
designator C??, comment value 220µF  (hidden comment: ECA-1HM221)
Aluminum Electrolytic Capacitor, 220 uF, +/- 20%, 50 V, -40 to 85 degC, 2-Pin THD, RoHS, Bulk; Manufacturer: Panasonic; Voltage Rating: 50V; Ripple Current: 400mA; Package Quantity: 200; Package Description: 2-Pin Radial Lead, Dia 10 mm, Body Length 12.5 mm; RoHS Compliant: True; Case/Package: Radial; Pins: 2; Mounting Technology: TH; Min Operating Temperature: -40°C; Packaging: Bulk; Ripple Current (AC): 400mA; Manufacturer URL: http://www.panasonic.com/; Diameter: 10mm; Tolerance: 20%; Package Reference: CAPPR65-500-1250X1000X1350; Max Operating Temperature: 85°C; Datasheet URL: http://industrial.panasonic.com/cdbs/www-data/pdf/RDF0000/DMF0000COL68.pdf; Lead Pitch: 5mm; Datasheet Version: Mar-16; Capacitor Type: Electrolytic; Manufacturer Part Number: ECA-1HM221; Component Type: Capacitors
footprint CAPPR65-500-1250X1000X1350 (THD, 2-Leads, Dia 10mm, Body Length 12.5mm)
pins: 1, 2

## CMP-002-00066-2
designator RPI Power??, comment 1050570001
USB-A Connector, 30 V, 1.5 A, -40 to 85 degC, RoHS, Tape and Reel; Manufacturer: Molex; Gender: RCP; Pins: 7; RoHS Compliant: Yes; Manufacturer Part Number: 1050570001; Component Type: Connectors
footprint MOLX-1050570001_V (THD, 4-Leads, Body 14.63x7.25mm)
pins: 1 VBUS, 2 D-, 3 D+, 4 GND, 5 SHLD1, 6 SHLD2, 7 SHLD3

## CMP-004-00007-1
designator D??, comment 1N4007
General Purpose Rectifier, 1.1 V, 1.0 A, -55 to 175 degC, 2-Pin DO-41, RoHS, Tape and Reel; Manufacturer: Fairchild; Manufacturer: Diodes; Manufacturer Part Number: 1N4007-T; Package Version: Rev. 2, 09/2008; Elements: 1; Forward Current: 1A; Max Surge Current: 30A; Forward Voltage: 1.1V; Peak Reverse Current: 5uA; Min Operating Temperature: -55°C; Case/Package: DO-41-2; Max Operating Temperature: 175°C; Package Description: 2-Pin Axial Lead, Dia 2.375 mm, Body Length 4.63 mm; RoHS Compliant: True; Datasheet Version: Rev. 1.1.0, 11/2014; Pins: 2; Package URL: http://www.fairchildsemi.com/dwg/DO/DO41A.pdf; Manufacturer URL: https://www.fairchildsemi.com/; Packaging: TapeandReel; Mounting Technology: TH; Package Quantity: 5000; Package Reference: DO-41-2; Datasheet URL: https://www.fairchildsemi.com/datasheets/1N/1N4007.pdf; Component Type: Diodes
footprint FAIR-DO-41-2 (THD, 2-Leads, Body 5.2x2.72mm, Pin Spacing 7.8mm)
pins: 1 K, 2 A

## CMP-006-00013-6
designator L??, comment value 100µH  (hidden comment: RL622-101K-RC)
Radial Inductor, 100 uH, +/- 10%, 0.91 A, -55 to 105 degC, 2-Pin THD, RoHS, Bulk; Manufacturer: Bourns; Q Factor: 20; Shielding: Unshielded; Core Material: Ferrite; Self Resonant Frequency: 3.7MHz; Resistance: 0.28Ohm; Current Rating: 910mA; Datasheet URL: http://www.bourns.com/docs/Product-Datasheets/rl622_series.pdf; Pins: 2; Inductance Tolerance: 10%; Packaging: Bulk; Tolerance: 10%; Diameter: 8.5mm; RoHS Compliant: True; Max Operating Temperature: 105°C; Package Quantity: 100; Package Reference: INDR62-500-1100X850X1100; Mounting Technology: TH; Lead Pitch: 5mm; Datasheet Version: Aug-10; Min Operating Temperature: -55°C; Package Description: 2-Pin Radial Lead, Dia 8.5 mm, Pitch 5 mm; Case/Package: Radial; Manufacturer Part Number: RL622-101K-RC; Component Type: Inductors
footprint INDR62-500-1100X850X1100 (THD, 2-Leads, Dia 8.5mm, Pitch 5mm)
pins: 1, 2

## CMP-007-00006-1
designator DS??, comment 304090040
Green LED, 80 mW, 20 mA, -25 to 85 degC, 2-Pin THD; Manufacturer: Shenzhen CGX; Mounting Technology: TH; Case/Package: 304090040; Package Description: 2-Pin Through Hole Device, Dia 3 mm, Pitch 2.28 mm; RoHS Compliant: Unknown; Package Reference: 304090040; Datasheet Version: Rev. 1.0, 09/2014; Manufacturer URL: http://szcgx.com/; Datasheet URL: http://datasheet.octopart.com/304090040-Chengguangxing-datasheet-62330655.pdf; Component Type: LED
footprint LED-2P-2.28-3MM (LED, 2-Leads, Dia 3mm, Pitch 2.28mm)
pins: 1 A, 2 K

## CMP-009-00059-3
designator R??, comment value 4.75k  (hidden comment: MFR-25FBF52-4K75)
Axial Resistor, 4.75 KOhm, +/- 1%, 0.25 W, -55 to 155 degC, 2-Pin THD, RoHS, Bulk; Manufacturer: Yageo; Voltage Rating: 250V; Power: 250mW; Min Operating Temperature: -55°C; Package Quantity: 200; Datasheet Version: Apr-13; Mounting Technology: TH; Package Description: 2-Pin Axial Lead, Dia 2.4 mm, Body Length 6.3 mm; Max Operating Temperature: 155°C; Composition: MetalFilm; RoHS Compliant: True; Package Reference: MFR-25; Tolerance: 1%; Case/Package: Axial; Datasheet URL: http://www.yageo.com/documents/recent/Yageo%20LR_MFR_2013.pdf; Manufacturer URL: http://www.yageo.com/; Packaging: Bulk; Manufacturer Part Number: MFR-25FBF52-4K75; Component Type: Resistors
footprint RESA60-630X240 (Axial Resistor, 2-Leads, Dia 2.4mm, Body Length 6.3mm)
pins: 1, 2
1 alternate drawing of the same symbol

## CMP-0069-01986-3
designator U??, comment LM2576T-12
SIMPLE SWITCHER® 3A Step-Down Voltage Regulator, 5-pin TO-220; Manufacturer: Texas Instruments; Manufacturer: TI National Semiconductor; PackageTopMarking: NSUZXYTTE#*LM2576T*-12 P+; PowerWise: N; PackageReference: KC0005A; RoHS: N; ComponentLink1URL: http://www.ti.com/general/docs/lit/getliterature.tsp?genericPartNumber=LM2576&fileType=pdf; PackageDescription: TO-220, Molded, 5 Lead, Straight; ComponentLink1Description: Datasheet URL; Code_JEDEC: TO-220-AB; CompType: Switcher; PinCount: 5; Manufacturer Part Number: LM2576T-12
footprint KC0005A (FM, 5-Leads, Body 10.16x8.46mm, Pitch 1.7mm)
pins: 1 VIN (power), 2 OUT (power), 3 GND (power), 4 FB (in), 5 ~{ON}/OFF (in)

## CMP-1055-00007-1
designator D??, comment 1N5822
Rectifier, 2-Pin Axial_Lead, Bulk Bag; Manufacturer: On Semiconductor; Manufacturer: ON Semiconductor / Fairchild; IFSM Max (A): 80; Note1: 0; Configuration: Single; PartNumber: 1N5822; ComponentLink2Description: Datasheet; RoHS: FALSE; PackageDescription: 2-Pin, Axial Lead, Diameter 5.05 mm; Mounting Technology: Through Hole; PackageReference: AXIAL_LEAD-2-267-05; ComponentLink1URL: http://www.onsemi.com/; PackageVersion: Rev. G, 06/2000; ComponentLink2URL: http://www.onsemi.cn/pub_link/Collateral/1N5820-D.PDF; ComponentLink3Description: Package Specification; ComponentLink1Description: Manufacturer URL; ComponentLink3URL: http://www.onsemi.com/pub_link/Collateral/267-05.PDF; Packing: Bulk Bag; DatasheetVersion: Rev. 10; Manufacturer Part Number: 1N5822
footprint FAIR-DO-41-2 (THD, 2-Leads, Body 5.2x2.72mm, Pin Spacing 7.8mm)
pins: 1 K, 2 A

## CMP-1502-01074-1
designator Motor-??, comment 61300711121
THT Vertical Pin Header WR-PHD, Pitch 2.54 mm, Single Row, 7 pins; Manufacturer: Wurth Elektronik; Manufacturer: Wurth Electronics; Pin Number: 7; Gender: Male; Working Voltage: 250VAC; Contact Resistance: 20mOhm; Rated Current: 3A; Pitch: 2.54mm; Withstanding Voltage: 500VAC; Row Number: Single; Packaging: Bag; Orientation: Vertical; Manufacturer URL: http://www.we-online.de; Datasheet URL: https://katalog.we-online.de/em/datasheet/6130xx11121.pdf; Part Number: 61300711121; Publisher: WurthElektronik; Operating Temperature: -40to105degC; Mounting Technology: THT; Package Reference: 61300711121; Manufacturer Part Number: 61300711121
footprint 61300711121 (Pin Header, pitch 2.54 mm, THT, Vertical, single row, 7p)
pins: 1, 2, 3, 4, 5, 6, 7

## CMP-1502-02007-1
designator Stepper-??, comment 691701340006B
Serie 7013 B - 3.81mm Horizontal PCB Header THR Type WR-TBL, 6 pin; Manufacturer: Wurth Elektronik; Manufacturer: Wurth Electronics; Pin Number: 6; Gender: Male; Mounting Technology: SMT; Pitch: 3.81mm; Manufacturer URL: http://www.we-online.de; Operating Temperature: -40to105degC; Part Number: 691701340006B; Packaging: TapeandReel; Publisher: WurthElektronik; Datasheet URL: http://katalog.we-online.de/em/datasheet/6917013400xxB.pdf; Package Reference: 691701340006B; Manufacturer Part Number: 691701340006B
footprint 691701340006B (Horizontal PCB Header THR Type, pitch 3.81mm, 06p)
pins: 1, 2, 3, 4, 5, 6

## CMP-1684-00017-1
designator J??
Female Header, Pitch 5 mm, 1 x 2 Position, Height 10 mm, Tail Length 3.5 mm, Rohs, Bulk; Manufacturer: TE Connectivity; Manufacturer Part Number: 282836-2; Wire Gauge: 16-30AWG; Product Training Modules: Wire-to-BoardEurostyleTerminalBlocks; Clamp Material - Plating: Brass-NickelPlated; Voltage: 300V; Mating Orientation: HorizontalwithBoard; Current: 13.5A; Pitch: 0.197"(5.00mm); Screw Thread: M3; 3D Model: 282836-2.pdf; Other Names: 5ULV-02B / A98076; Dynamic Catalog: BuchananSeries; Number of Levels: 1; Torque - Screw: 0.68Nm(6Lb-In); Featured Product: EurostyleTerminalBlockConnectors; Positions Per Level: 2; Wire Termination: Screw-RisingCageClamp; Datasheet URL: http://www.te.com.cn/commerce/DocumentDelivery/DDEController?Action=showdoc&DocId=Catalog+Section%7F1308389_EUROSTYLE_TERMINAL_BLOCKS%7F0607%7Fpdf%7FEnglish%7FENG_CS_1308389_EUROSTYLE_TERMINAL_BLOCKS_0607.pdf%7F282836-2; Color: Green; Family: TerminalBlocks-WiretoBoard; RoHS Information: 282836-2StatementofCompliance; Standard Package: 300; Contact Material - Plating: Brass-TinPlated; Manufacturer URL: http://www.te.com; Housing Material: Polyamide(PA66),Nylon6/6; Features: Interlocking(Side); Package Description: Female Header, Pitch 5 mm, 1 x 2 Position, Height 10 mm, Tail Length 3.5 mm; Mounting Type: ThroughHole; Package Reference: THD; Packaging: Bulk; Series: Buchanan; Category: Connectors,Interconnects; Screw Material - Plating: Brass-NickelPlated
footprint TECO-282836-2_V (Female Header, Pitch 5mm, 1 x 2 Position, Height 10mm)
pins: 1, 2

## CMP-2000-04956-2
designator LLC??, comment TXS0108EPWR
IC TRNSLTR BIDIRECTIONAL 20TSSOP; Manufacturer: Texas Instruments; Number of Inputs: 8; Supply Current: 8uA; Low Level Output Current: 50mA; Min Supply Voltage: 1.2V; Quiescent Current: 3uA; Output Type: Voltage; Propagation Delay: 4.8ns; Max Supply Voltage: 5.5V; Output Current: 620uA; Turn-On Delay Time: 312ns; Logic Function: Translator; Data Rate: 60Mbps; Rise Time: 6.3ns; High Level Output Current: -50mA; Number of Pins: 20; Packaging: Tape and Reel; Max Operating Temperature: 85°C; Height: 1.15mm; Nominal Supply Current: 8uA; Termination: SMD/SMT; Lead Free: Lead Free; Package Quantity: 1; Number of Bits: 8; Weight: 0.002716oz; Contact Plating: Gold; Series: -; Width: 4.4mm; Radiation Hardening: No; Mount: Surface Mount; Length: 6.5mm; Case/Package: TSSOP; REACH SVHC: No SVHC; RoHS Compliant: Yes; Min Operating Temperature: -40°C; Number of Channels: 8; Manufacturer Part Number: TXS0108EPWR
footprint FP-PW0020A-IPC_C
pins: 1 A1 (in), 2 VCCA (power), 3 A2 (in), 4 A3 (in), 5 A4 (in), 6 A5 (in), 7 A6 (in), 8 A7 (in), 9 A8 (in), 10 OE (in), 11 GND (power), 12 B8 (out), 13 B7 (out), 14 B6 (out), 15 B5 (out), 16 B4 (out), 17 B3 (out), 18 B2 (out), 19 VCCB (power), 20 B1 (out)

## CMP-2000-05418-1
designator Rpi??, comment 640456-3
Male Header, Pitch 2.54 mm, 1 x 3 Position, Height 10.03 mm, Tail Length 3.56 mm, -55 to 105 degC; Manufacturer: TE Connectivity; Agency Approvals: CSA,UL; Angle: Straight; Number of Positions: 3; Standards: RoHSCompliant,ELVCompliant,UL94V-0; Current, Rating: 5 / A; Connector Type: MTA-100; Mount Angle: Vertical; Material, Housing: Polyester; Temperature, Operating: -55to+105 / degC; Voltage, Rating: 250 / V; Color, Housing: White; Contact Centerline Spacing: 0.100 / in.; Special Features: Pinstrip; Material, Contact: CopperAlloy; Contact Termination Area Plating: Tin; Primary Type: InterconnectSystem; Pin Spacing: 0.1 / "; Brand/Series: MTA-100Series; Mounting Hole Size: 0.04 / "; Manufacturer URL: http://www.te.com/; Datasheet URL: https://datasheet.ciiva.com/16456/eng-ds-82056-mta-0608-16456886.pdf; Flammability Rating: UL94V-0; Mounting Type: PCMount; Contact Mating Area Plating: Tin; Datasheet Version: Jun-08; Number of Rows: 1; Termination: Solder; Type: PCBPlug; Length, Pin: 0.14 / "; Color: White; Contact Plating: Tin; Contact Shape: Square; Number of Contacts: 3; Size, Post: 0.025 / in.; Length, Terminal Post: 0.14 / in.; Length, Overall: 0.3 / "; Manufacturer Part Number: 640456-3
footprint TECO-640456-3 (Through Hole, 3-Leads, Body 7.62x5.72mm, Pitch 2.54mm)
pins: 1, 2, 3

## CMP-2000-05419-1
designator Motor-1-D?, comment 640456-4
Male Header, Pitch 2.54 mm, 1 x 4 Position, Height 10.03 mm, Tail Length 3.56 mm, RoHS, Bulk; Manufacturer: TE Connectivity; Material, Housing: Polyester; Primary Type: InterconnectSystem; Mount Angle: Vertical; Color, Housing: White; Current, Rating: 5 / A; Agency Approvals: CSA,UL; Contact Termination Area Plating: Tin; Temperature, Operating: -55to+105 / degC; Standards: RoHSCompliant,ELVCompliant,UL94V-0; Number of Positions: 4; Brand/Series: MTA-100Series; Angle: Straight; Pin Spacing: 0.1 / "; Material, Contact: CopperAlloy; Connector Type: MTA-100; Special Features: Pinstrip; Mounting Hole Size: 0.04 / "; Contact Centerline Spacing: 0.100 / in.; Voltage, Rating: 250 / V; Manufacturer URL: http://www.te.com/; Length, Pin: 0.14 / "; Length, Overall: 0.4 / "; Color: White; Flammability Rating: UL94V-0; Mounting Type: PCMount; Termination: Solder; Datasheet URL: https://datasheet.ciiva.com/16286/eng-ds-82056-mta-0608-16286228.pdf; Number of Contacts: 4; Contact Shape: Square; Contact Mating Area Plating: Tin; Length, Terminal Post: 0.14 / in.; Size, Post: 0.025 / in.; Contact Plating: Tin; Type: PCBPlug; Datasheet Version: Dec-14; Number of Rows: 1; Manufacturer Part Number: 640456-4
footprint TECO-640456-4 (Through Hole, 4-Leads, Body 10.16x5.72mm, Pitch 2.54mm)
pins: 1, 2, 3, 4

## CMP-2000-07351-1
designator U??, comment ULN2003A
Seven Darlington Array, 50 V, 0.5 A, -40 to 85 degC, 16-Pin DIP, RoHS, Tube; Manufacturer: STMicroelectronics; Transistor Polarity: NPN; VOUT: 50V; No. of Pins: 16Pins; SVHC: NoSVHC(17-Dec-2015); DC Current Gain hFE: 1000hFE; Output Current: 0.5A; DC Collector Current: 500mA; Transistor Case Style: DIP; Package Reference: DIP-16L; Automotive Qualification Standard: -; Mounting Technology: ThroughHole; Power Dissipation Pd: -; Collector Emitter Voltage V(br)ceo: 50V; Datasheet URL: http://www2.st.com/content/ccc/resource/technical/document/datasheet/f3/6e/c8/64/4d/b3/4e/38/CD00001244.pdf/files/CD00001244.pdf/jcr:content/translations/en.CD00001244.pdf; Manufacturer URL: http://www.st.com/; PartNumber: ULN2003A; MSL: MSL2-1year; Product Range: -; Package Description: 16-Pin DIP, Body 19.7 x 7.1 mm, Pitch 2.54 mm; Operating Temperature Max: 85°C; Datasheet Version: Rev. 8, 06/2012; Manufacturer Part Number: ULN2003A
footprint STM-DIP-16L (DIP, 16-Leads, Body 19.7x7.1mm, Pitch 2.54mm)
pins: 1 IN1 (in), 2 IN2 (in), 3 IN3 (in), 4 IN4 (in), 5 IN5 (in), 6 IN6 (in), 7 IN7 (in), 8 GND (power), 9 COM, 10 OUT7 (out), 11 OUT6 (out), 12 OUT5 (out), 13 OUT4 (out), 14 OUT3 (out), 15 OUT2 (out), 16 OUT1 (out)

## CMP-07128-000015-1
designator U??, comment LM7812CT
IC REG LINEAR 12V 1A TO220-3; Obsolete Part: true; Manufacturer: ON Semiconductor; Manufacturer: ON Semiconductor / Fairchild; Nominal Supply Current: 5.1mA; Output Type: Fixed; Dropout Voltage: 2V; Max Supply Voltage: 35V; Accuracy Percentage: 4%; Standoff Height: 2.7mm; Number Of Outputs: 1; Octopart: https://octopart.com/lm7812ct-on+semiconductor-14383031; Output Current: 1A; ComponentLink2Description: Datasheet; Device Class L1: Integrated Circuits (ICs); Device Class L2: Power Management ICs; Temperature Range Low: -40°C; Category: IC; Package: TO220B03; Device Class L3: Voltage Regulators - Linear; RoHS: TRUE; Digikey Description: IC REG LINEAR 12V 1A TO220-3; Ipc Land Pattern Name: TO-220; Output Voltage: 12V; Temperature: -40°C to +125°C; Automotive: No; Temperature Range High: +125°C; ComponentLink2URL: https://www.mouser.in/datasheet/2/308/LM7812-1125088.pdf; Manufacturer Part Number: LM7812CT; Height: 20.4mm; Lead Free: Yes
footprint FP-TO220B03-MFG
pins: 1 OUTPUT (power), 2 GND (power), 3 INPUT (power)

## Component_1
designator *

## Component_1_1
designator *

## CONN-JACK-3.5
designator J*, comment CONN JACK STEREO 3.5MM SMD R/A  Supplier Part Number 1: CP-3523SJTR-ND
3.50mm (0.141", 1/8", Mini Plug) - Headphone Phone Jack Stereo Connector Solder - SJ-3523-SMT; ComponentLink1Description: Digikey; ComponentLink1URL: https://www.digikey.com/product-detail/en/cui-inc/SJ-3523-SMT-TR/CP-3523SJTR-ND/281297; Supplier 1: Digi-Key
footprint SJ-3523-SMT-TR (3.50mm (0.141", 1/8", Mini Plug) - Headphone Phone Jack Stereo Connector Solder CP-3523SJTR-ND)
pins: 1, 2, 3

## Connect Pad
designator *
footprint Connect Pad (Connect Pad 2pin)
pins: 0 P1, 1 P2

## Connect Pad_1
designator *
footprint Connect Pad (Connect Pad 2pin)
pins: 0 P1, 1 P2

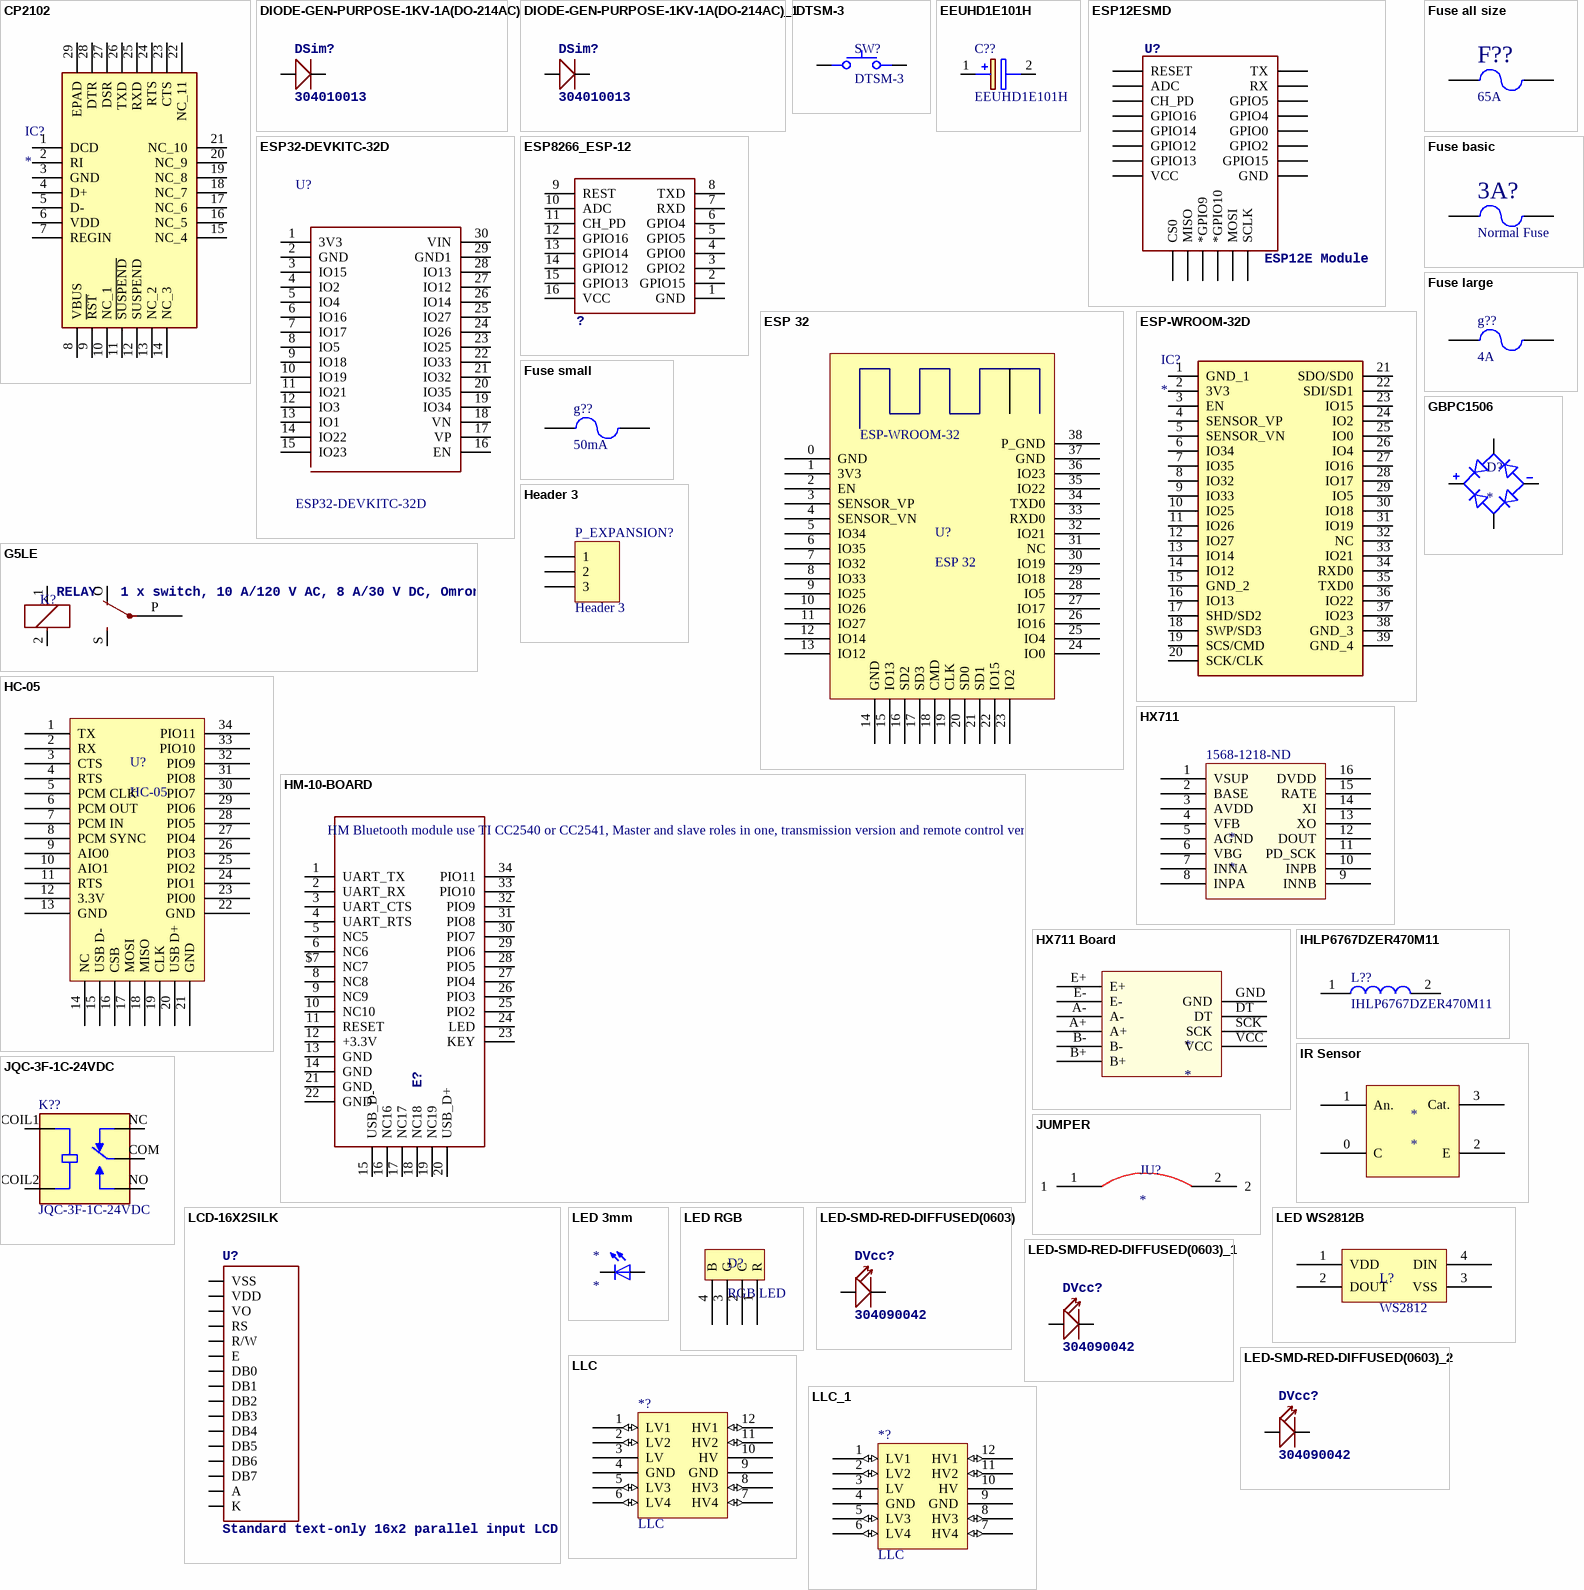
[diagram p3: symbols CP2102 to LLC_1]

## CP2102
designator IC?
Integrated Circuit; Manufacturer_Name: Silicon Labs; Manufacturer_Part_Number: CP2102; Datasheet Link: https://componentsearchengine.com/Datasheets/1/CP2102.pdf; Height: 1mm; Mouser Part Number: 634-CP2102; Mouser Price/Stock: https://www.mouser.co.uk/ProductDetail/Silicon-Labs/CP2102?qs=ucY0lxHzU7615lOm95XT0w%3D%3D
footprint QFN50P500X500X100-29N-D
pins: 1 DCD, 2 RI, 3 GND, 4 D+, 5 D-, 6 VDD, 7 REGIN, 8 VBUS, 9 ~{RST}, 10 NC_1, 11 ~{SUSPEND}, 12 SUSPEND, 13 NC_2, 14 NC_3, 15 NC_4, 16 NC_5, 17 NC_6, 18 NC_7, 19 NC_8, 20 NC_9, 21 NC_10, 22 NC_11, 23 CTS, 24 RTS, 25 RXD, 26 TXD, 27 DSR, 28 DTR, 29 EPAD

## DIODE-GEN-PURPOSE-1KV-1A(DO-214AC)
designator DSim?, comment 304010013
MPN: 1N4007
footprint DO-214AC
pins: 1 +, 2 -

## DIODE-GEN-PURPOSE-1KV-1A(DO-214AC)_1
designator DSim?, comment 304010013
MPN: 1N4007
footprint DO-214AC
pins: 1 +, 2 -

## DTSM-3
designator SW?
Tactile Switch SMD SPST; Manufacturer: Diptronics; Manufacturer Part Number: DTSM-3
footprint DTSM-3
pins: 1, 2

## EEUHD1E101H
designator C??
Capacitor Polarised; Manufacturer_Name: Panasonic; Datasheet Link: http://industrial.panasonic.com/cdbs/www-data/pdf/RDF0000/ABA0000C1035.pdf; Height: 12.7mm; Manufacturer_Part_Number: EEUHD1E101H
footprint CAPPRD250W55D630H1270
pins: 1 +, 2 -

## ESP12ESMD
designator U?, comment ESP12E Module
footprint ESP12E-SMD
pins: ADC, CH_PD, CS0, GND, GPIO0, GPIO2, GPIO4, GPIO5, GPIO9 *GPIO9, GPIO10 *GPIO10, GPIO12, GPIO13, GPIO14, GPIO15, GPIO16, MISO, MOSI, RESET, RXD0 RX, SCLK, TXD0 TX, VCC

## ESP32-DEVKITC-32D
designator U?
Eval Board For Esp-Wroom-32; MF: Espressif Systems; Availability: Unavailable; Package: None; SnapEDA_Link: https://www.snapeda.com/parts/ESP32-DEVKITC-32D/Espressif%20Systems/view-part/?ref=snap; MP: ESP32-DEVKITC-32D; Price: None; Value: *
footprint MODULE_ESP32-DEVKITV1
pins: 1 3V3, 2 GND, 3 IO15, 4 IO2, 5 IO4, 6 IO16, 7 IO17, 8 IO5, 9 IO18, 10 IO19, 11 IO21, 12 IO3, 13 IO1, 14 IO22, 15 IO23, 16 EN, 17 VP, 18 VN, 19 IO34, 20 IO35, 21 IO32, 22 IO33, 23 IO25, 24 IO26, 25 IO27, 26 IO14, 27 IO12, 28 IO13, 29 GND1, 30 VIN

## ESP8266_ESP-12
designator ?
footprint ESP8266-ESP12
pins: 1 GND, 2 GPIO15, 3 GPIO2, 4 GPIO0, 5 GPIO5, 6 GPIO4, 7 RXD, 8 TXD, 9 REST, 10 ADC, 11 CH_PD, 12 GPIO16, 13 GPIO14, 14 GPIO12, 15 GPIO13, 16 VCC

## ESP 32
designator U?
footprint ESP 32
pins: 0 GND, 1 3V3, 2 EN, 3 SENSOR_VP, 4 SENSOR_VN, 5 IO34, 6 IO35, 7 IO32, 8 IO33, 9 IO25, 10 IO26, 11 IO27, 12 IO14, 13 IO12, 14 GND, 15 IO13, 16 SD2, 17 SD3, 18 CMD, 19 CLK, 20 SD0, 21 SD1, 22 IO15, 23 IO2, 24 IO0, 25 IO4, 26 IO16, 27 IO17, 28 IO5, 29 IO18, 30 IO19, 31 NC, 32 IO21, 33 RXD0, 34 TXD0, 35 IO22, 36 IO23, 37 GND, 38 P_GND
text: ESP-WROOM-32

## ESP-WROOM-32D
designator IC?
Integrated Circuit; Manufacturer_Name: Espressif Systems; Manufacturer_Part_Number: ESP-WROOM-32D; Datasheet Link: https://componentsearchengine.com/Datasheets/1/ESP-WROOM-32D.pdf; Height: 3.2mm; Mouser Part Number: 356-ESP-WROOM-32D; Mouser Price/Stock: https://www.mouser.co.uk/ProductDetail/Espressif-Systems/ESP-WROOM-32D?qs=MLItCLRbWsyWVKgdQMcFuQ%3D%3D
footprint ESPWROOM32D
pins: 1 GND_1, 2 3V3, 3 EN, 4 SENSOR_VP, 5 SENSOR_VN, 6 IO34, 7 IO35, 8 IO32, 9 IO33, 10 IO25, 11 IO26, 12 IO27, 13 IO14, 14 IO12, 15 GND_2, 16 IO13, 17 SHD/SD2, 18 SWP/SD3, 19 SCS/CMD, 20 SCK/CLK, 21 SDO/SD0, 22 SDI/SD1, 23 IO15, 24 IO2, 25 IO0, 26 IO4, 27 IO16, 28 IO17, 29 IO5, 30 IO18, 31 IO19, 32 NC, 33 IO21, 34 RXD0, 35 TXD0, 36 IO22, 37 IO23, 38 GND_3, 39 GND_4

## Fuse all size
designator F??, comment 65A
footprint FUSE(ALL SIZE)
pins: 1, 2

## Fuse basic
designator 3A?, comment Normal Fuse
footprint Fuse (Normal Fuse)
pins: 1, 2

## Fuse large
designator g??, comment 4A
footprint Fuse - duplicate (Normal Fuse)
pins: 1, 2

## Fuse small
designator g??, comment 50mA
footprint FUSE SMALL-1
pins: 1, 2

## G5LE
designator K?, comment RELAY   1 x switch, 10 A/120 V AC, 8 A/30 V DC, Omron
footprint G5LE
pins: 1, 2, O, P Common, S

## GBPC1506
designator D?
Bridge Rectifier Single Phase Standard 600 V QC Terminal GBPC; MP: GBPC1506; MF: ON Semiconductor; SnapEDA_Link: https://www.snapeda.com/parts/GBPC1506/Onsemi/view-part/?ref=snap; Package: GBPC-4 ON Semiconductor; Purchase-URL: https://pricing.snapeda.com/search/part/GBPC1506/?ref=eda; Check_prices: https://www.snapeda.com/parts/GBPC1506/Onsemi/view-part/?ref=eda; Price: None; Value: *; Availability: In Stock
footprint DIOB_GBPC1506
pins: AC1, AC2, N, P

## HC-05
designator U?
footprint HC-05 (Bluetooth module)
pins: 1 TX, 2 RX, 3 CTS, 4 RTS, 5 PCM CLK, 6 PCM OUT, 7 PCM IN, 8 PCM SYNC, 9 AIO0, 10 AIO1, 11 RTS, 12 3.3V, 13 GND, 14 NC, 15 USB D-, 16 CSB, 17 MOSI, 18 MISO, 19 CLK, 20 USB D+, 21 GND, 22 GND, 23 PIO0, 24 PIO1, 25 PIO2, 26 PIO3, 27 PIO4, 28 PIO5, 29 PIO6, 30 PIO7, 31 PIO8, 32 PIO9, 33 PIO10, 34 PIO11

## Header 3
designator P_EXPANSION?
Header, 3-Pin; LatestRevisionDate: 17-Jul-2002; LatestRevisionNote: Re-released for DXP Platform.; Publisher: Altium Limited
footprint HDR1X3 (Connector; Header; 3 Position)
signal-integrity model Connector
pins: 1, 2, 3

## HM-10-BOARD
designator E?, comment HM Bluetooth module use TI CC2540 or CC2541, Master and slave roles in one, transmission version and remote control version and PIO state acquisition functions in one, Support the AT command modify module parameters, Convenient and flexible.
footprint 26.9X13X2.2_BOARD
pins: 1 UART_TX, 2 UART_RX, 3 UART_CTS, 4 UART_RTS, 5 NC5, 6 NC6, 8 NC8, 9 NC9, 10 NC10, 11 RESET, 12 +3.3V, 13 GND, 14 GND, 15 USB_D-, 16 NC16, 17 NC17, 18 NC18, 19 NC19, 20 USB_D+, 21 GND, 22 GND, 23 KEY, 24 LED, 25 PIO2, 26 PIO3, 27 PIO4, 28 PIO5, 29 PIO6, 30 PIO7, 31 PIO8, 32 PIO9, 33 PIO10, 34 PIO11, $7 NC7

## HX711
designator *  Supplier Part Number 1: 1568-1218-ND
Supplier 1: Digi-Key
footprint SOP16L
pins: 1 VSUP, 2 BASE, 3 AVDD, 4 VFB, 5 AGND, 6 VBG, 7 INNA, 8 INPA, 9 INNB, 10 INPB, 11 PD_SCK, 12 DOUT, 13 XO, 14 XI, 15 RATE, 16 DVDD

## HX711 Board
designator *
footprint HX711 Board
pins: A+, A-, B+, B-, DT, E+, E-, GND, SCK, VCC

## IHLP6767DZER470M11
designator L??
Inductor; Manufacturer_Name: Vishay; Datasheet Link: https://componentsearchengine.com/Datasheets/2/IHLP6767DZER470M11.pdf; Height: 4mm; Manufacturer_Part_Number: IHLP6767DZER470M11; Mouser Part Number: 70-IHLP6767DZER470M1; Mouser Price/Stock: https://www.mouser.co.uk/ProductDetail/Vishay-Dale/IHLP6767DZER470M11?qs=e2ByEPnK0IgJ3lh9QXlbaQ%3D%3D; Arrow Part Number: IHLP6767DZER470M11; Arrow Price/Stock: https://www.arrow.com/en/products/ihlp6767dzer470m11/vishay
footprint 1468362
pins: 1, 2